# EAGLE library part 5530843-5 (library 5530843-5)
CONN CARDEDGE FEMALE 50POS 0.100
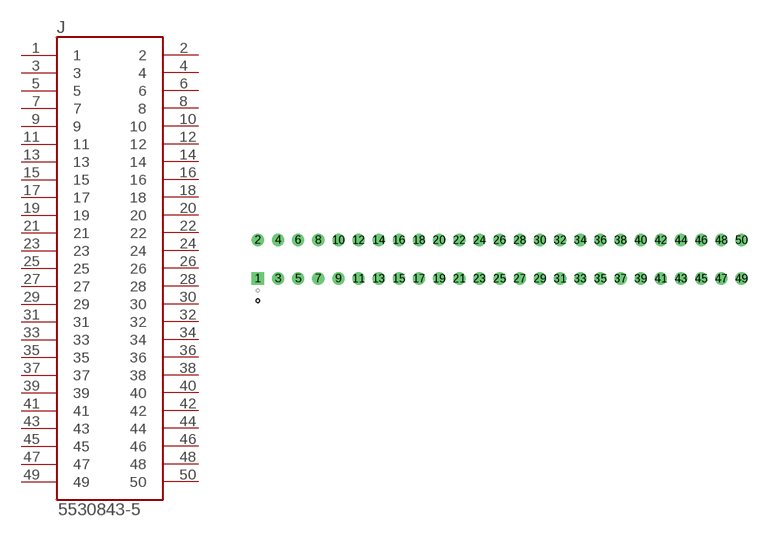
[diagram p0: symbol with the pads of TE_5530843-5; footprint TE_5530843-5]

Designator prefix J

## 5530843-5 (MANUFACTURER: TE Connectivity; PARTREV: F8; STANDARD: Manufacturer Recommendations)  [TE_5530843-5]
1  1  pas
2  2  pas
3  3  pas
4  4  pas
5  5  pas
6  6  pas
7  7  pas
8  8  pas
9  9  pas
10  10  pas
11  11  pas
12  12  pas
13  13  pas
14  14  pas
15  15  pas
16  16  pas
17  17  pas
18  18  pas
19  19  pas
20  20  pas
21  21  pas
22  22  pas
23  23  pas
24  24  pas
25  25  pas
26  26  pas
27  27  pas
28  28  pas
29  29  pas
30  30  pas
31  31  pas
32  32  pas
33  33  pas
34  34  pas
35  35  pas
36  36  pas
37  37  pas
38  38  pas
39  39  pas
40  40  pas
41  41  pas
42  42  pas
43  43  pas
44  44  pas
45  45  pas
46  46  pas
47  47  pas
48  48  pas
49  49  pas
50  50  pas

## Footprint TE_5530843-5 (pad centres in mm)
drill 1.016 square: 1 0,0
drill 1.016: 2 0,4.851; 3 2.54,0; 4 2.54,4.851; 5 5.08,0; 6 5.08,4.851; 7 7.62,0; 8 7.62,4.851; 9 10.16,0; 10 10.16,4.851; 11 12.7,0; 12 12.7,4.851; 13 15.24,0; 14 15.24,4.851; 15 17.78,0; 16 17.78,4.851; 17 20.32,0; 18 20.32,4.851; 19 22.86,0; 20 22.86,4.851; 21 25.4,0; 22 25.4,4.851; 23 27.94,0; 24 27.94,4.851; 25 30.48,0; 26 30.48,4.851; 27 33.02,0; 28 33.02,4.851; 29 35.56,0; 30 35.56,4.851; 31 38.1,0; 32 38.1,4.851; 33 40.64,0; 34 40.64,4.851; 35 43.18,0; 36 43.18,4.851; 37 45.72,0; 38 45.72,4.851; 39 48.26,0; 40 48.26,4.851; 41 50.8,0; 42 50.8,4.851; 43 53.34,0; 44 53.34,4.851; 45 55.88,0; 46 55.88,4.851; 47 58.42,0; 48 58.42,4.851; 49 60.96,0; 50 60.96,4.851